# Altium footprint library ICs.PcbLib: 109 footprints (part 2 of 7)
Each footprint in its own frame and in the unit in brackets; x right, y up, seen from the top. Pads: shape width x height; smd on the part's side, far side on the other; paste and mask are expansions set on the pad; w line width, h text height; cw(c..) or ccw(c..) is an arc to the next point about the centre after c.
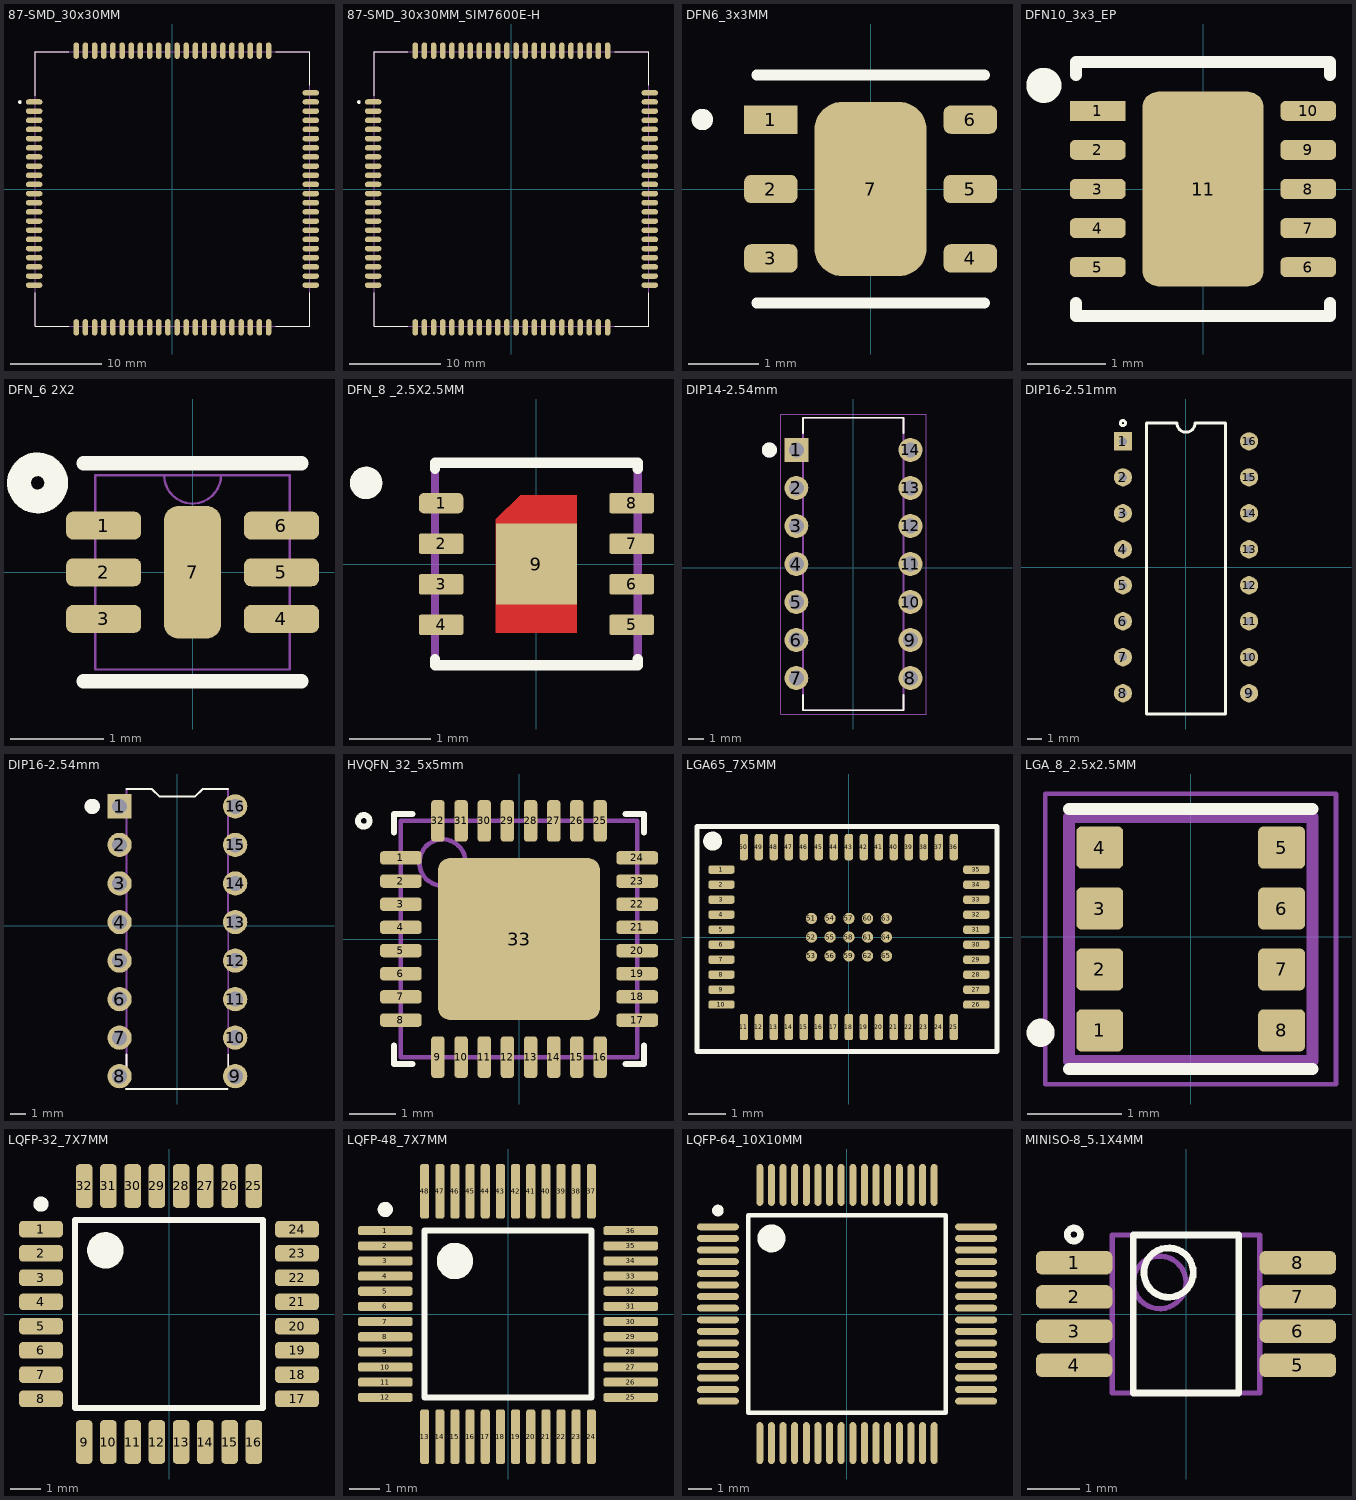
[diagram p1: the footprints below, top view; thin cyan lines are the x and y axes]

## 87-SMD_30x30MM [mm] "20220111 / E.Naranjo"
pads (87):
  oval 1.8x0.6 smd: 1(-15.1,9.5) 2(-15.1,8.5) 3(-15.1,7.5) 4(-15.1,6.5) 5(-15.1,5.5) 6(-15.1,4.5) 7(-15.1,3.5) 8(-15.1,2.5) 9(-15.1,1.5) 10(-15.1,0.5) 11(-15.1,-0.5) 12(-15.1,-1.5) 13(-15.1,-2.5) 14(-15.1,-3.5) 15(-15.1,-4.5) 16(-15.1,-5.5) 17(-15.1,-6.5) 18(-15.1,-7.5) 19(-15.1,-8.5) 20(-15.1,-9.5) 41(15.1,-9.5) 42(15.1,-8.5) 43(15.1,-7.5) 44(15.1,-6.5) 45(15.1,-5.5) 46(15.1,-4.5) 47(15.1,-3.5) 48(15.1,-2.5) 49(15.1,-1.5) 50(15.1,-0.5) 51(15.1,0.5) 52(15.1,1.5) 53(15.1,2.5) 54(15.1,3.5) 55(15.1,4.5) 56(15.1,5.5) 57(15.1,6.5) 58(15.1,7.5) 59(15.1,8.5) 60(15.1,9.5) 81(-15.1,-10.5) 82(15.1,-10.5) 85(15.1,10.5)
  oval 0.6x1.8 smd: 21(-9.5,-15.1) 22(-8.5,-15.1) 23(-7.5,-15.1) 24(-6.5,-15.1) 25(-5.5,-15.1) 26(-4.5,-15.1) 27(-3.5,-15.1) 28(-2.5,-15.1) 29(-1.5,-15.1) 30(-0.5,-15.1) 31(0.5,-15.1) 32(1.5,-15.1) 33(2.5,-15.1) 34(3.5,-15.1) 35(4.5,-15.1) 36(5.5,-15.1) 37(6.5,-15.1) 38(7.5,-15.1) 39(8.5,-15.1) 40(9.5,-15.1) 61(9.5,15.1) 62(8.5,15.1) 63(7.5,15.1) 64(6.5,15.1) 65(5.5,15.1) 66(4.5,15.1) 67(3.5,15.1) 68(2.5,15.1) 69(1.5,15.1) 70(0.5,15.1) 71(-0.5,15.1) 72(-1.5,15.1) 73(-2.5,15.1) 74(-3.5,15.1) 75(-4.5,15.1) 76(-5.5,15.1) 77(-6.5,15.1) 78(-7.5,15.1) 79(-8.5,15.1) 80(-9.5,15.1) 83(10.5,-15.1) 84(-10.5,-15.1) 86(-10.5,15.1) 87(10.5,15.1)
Top Overlay:
  circle w0.2: c-16.652,9.49 r0.1
  lines w0.127: -15,-11.3 -15,-15 -11.3,-15 ; -15,10.2 -15,15 -11.3,15 ; 11.3,-15 15,-15 15,-11.3 ; 11.3,15 15,15 15,11.3
Mechanical 1:
  lines w0.127: -15,-15 15,-15 15,15 -15,15 -15,-15
3D body "SIM7600ES2-107EP-Z1W4D_SMM.step": height 2.75, standoff 0, extent -15.075,-15.075 15.075,15.075

## 87-SMD_30x30MM_SIM7600E-H [mm] "20220318 / J-E.Pachon"
pads (87):
  oval 1.8x0.6 smd: 1(-15.1,9.5) 2(-15.1,8.5) 3(-15.1,7.5) 4(-15.1,6.5) 5(-15.1,5.5) 6(-15.1,4.5) 7(-15.1,3.5) 8(-15.1,2.5) 9(-15.1,1.5) 10(-15.1,0.5) 11(-15.1,-0.5) 12(-15.1,-1.5) 13(-15.1,-2.5) 14(-15.1,-3.5) 15(-15.1,-4.5) 16(-15.1,-5.5) 17(-15.1,-6.5) 18(-15.1,-7.5) 19(-15.1,-8.5) 20(-15.1,-9.5) 41(15.1,-9.5) 42(15.1,-8.5) 43(15.1,-7.5) 44(15.1,-6.5) 45(15.1,-5.5) 46(15.1,-4.5) 47(15.1,-3.5) 48(15.1,-2.5) 49(15.1,-1.5) 50(15.1,-0.5) 51(15.1,0.5) 52(15.1,1.5) 53(15.1,2.5) 54(15.1,3.5) 55(15.1,4.5) 56(15.1,5.5) 57(15.1,6.5) 58(15.1,7.5) 59(15.1,8.5) 60(15.1,9.5) 81(-15.1,-10.5) 82(15.1,-10.5) 85(15.1,10.5)
  oval 0.6x1.8 smd: 21(-9.5,-15.1) 22(-8.5,-15.1) 23(-7.5,-15.1) 24(-6.5,-15.1) 25(-5.5,-15.1) 26(-4.5,-15.1) 27(-3.5,-15.1) 28(-2.5,-15.1) 29(-1.5,-15.1) 30(-0.5,-15.1) 31(0.5,-15.1) 32(1.5,-15.1) 33(2.5,-15.1) 34(3.5,-15.1) 35(4.5,-15.1) 36(5.5,-15.1) 37(6.5,-15.1) 38(7.5,-15.1) 39(8.5,-15.1) 40(9.5,-15.1) 61(9.5,15.1) 62(8.5,15.1) 63(7.5,15.1) 64(6.5,15.1) 65(5.5,15.1) 66(4.5,15.1) 67(3.5,15.1) 68(2.5,15.1) 69(1.5,15.1) 70(0.5,15.1) 71(-0.5,15.1) 72(-1.5,15.1) 73(-2.5,15.1) 74(-3.5,15.1) 75(-4.5,15.1) 76(-5.5,15.1) 77(-6.5,15.1) 78(-7.5,15.1) 79(-8.5,15.1) 80(-9.5,15.1) 83(10.5,-15.1) 84(-10.5,-15.1) 86(-10.5,15.1) 87(10.5,15.1)
Top Overlay:
  circle w0.2: c-16.652,9.49 r0.1
  lines w0.127: -15,-11.3 -15,-15 -11.3,-15 ; -15,10.2 -15,15 -11.3,15 ; 11.3,-15 15,-15 15,-11.3 ; 11.3,15 15,15 15,11.3
Mechanical 1:
  lines w0.127: -15,-15 -15,15 15,15 15,-15 -15,-15
3D body "SIM7600E-H--3DModel-STEP-56544.STEP": height 3.11, standoff 0.01, extent -15,-15 15,15

## DFN6_3x3MM [mil] "/20221116/J-A.Sepulveda"
pads (7):
  rect 30x16 smd: 1(-56,39)
  rrect50% 30x16 smd: 2(-56,0) 3(-56,-39) 4(56,-39) 5(56,0) 6(56,39)
  rrect50% 63x98 smd: 7(0,0)
Top Overlay:
  circle w6: c-94.5,39 r3
  lines w6: -64,-64 64,-64 ; -64,64 64,64
3D body "DFN6_3X3_SIL.step": height 48.11, standoff 0, extent -59.02,-59.02 59.02,59.02

## DFN10_3x3_EP [mil] "10-VFDFN_EP/20220711/V-A.Patino"
pads (11):
  rect 28x10 smd: 1(-53,39.37)
  rrect50% 28x10 smd: 2(-53,19.69) 3(-53,0) 4(-53,-19.68) 5(-53,-39.37) 6(53,-39.37) 7(53,-19.68) 8(53,0) 9(53,19.69) 10(53,39.37)
  rrect25% 61.02x98 smd: 11(0,0)
Top Overlay:
  circle w9.84: c-80.22,52.23 r3.94
  lines w6: -64,-57.47 -64,-64 64,-64 64,-57.47 ; -64,57.47 -64,64 64,64 64,57.47
3D body "DFN10_3x3MC_MCH.step": height 37.09, standoff 0, extent -59.02,-59.02 59.02,59.02

## DFN_6 2X2 [mm] "6-WFDFN Exposed Pad/20210707/N-A.Potosi"
pads (7):
  rrect50% 0.805x0.3 smd: 1(-0.952,0.5) 2(-0.952,0) 3(-0.952,-0.5) 4(0.952,-0.5) 5(0.952,0) 6(0.952,0.5)
  rrect50% 0.61x1.42 smd: 7(0,0)
Top Overlay:
  circle w0.254: c-1.661,0.958 r0.199
  lines w0.152: -1.168,-1.168 1.168,-1.168 ; -1.168,1.168 1.168,1.168
Top Paste:
  region: 0.305,-0.71 -0.305,-0.71 -0.305,0.71 0.305,0.71
Mechanical 1:
  lines w0.025: -0.305,1.041 ccw(c0,1.041) 0.305,1.041 ; -0.305,1.041 -1.041,1.041 -1.041,-1.041 1.041,-1.041 1.041,1.041 0.305,1.041 ; -0.305,1.041 0.305,1.041
3D body "User Library-DFN-6-1.step": height 0.81, standoff 0.01, extent -1.054,-1.005 1.046,0.995

## DFN_8 _2.5X2.5MM [mm] "8VFDFN/20201009/N-A.Potosi"
pads (9):
  rrect50% 0.55x0.25 smd: 1(-1.175,0.75)
  rrect20% 0.55x0.25 smd: 2(-1.175,0.25) 3(-1.175,-0.25) 4(-1.175,-0.75) 5(1.175,-0.75) 6(1.175,-0.25) 7(1.175,0.25) 8(1.175,0.75)
  rect 1x1 smd: 9(0,0)
Top Layer:
  region: 0.5,-0.85 -0.5,-0.85 -0.5,0.55 -0.2,0.85 0.5,0.85
Top Overlay:
  circle w0.2: c-2.1,1 r0.1
  lines w0.127: -1.25,-1.175 -1.25,-1.25 1.25,-1.25 1.25,-1.175 ; -1.25,1.175 -1.25,1.25 1.25,1.25 1.25,1.175
Top Solder:
  drawing of 9 lines, arcs and shapes, not listed
Mechanical 1:
  lines w0.1: -1.25,-1.25 -1.25,1.25 1.25,1.25 1.25,-1.25 -1.25,-1.25
3D body "SHT31-DIS-F2.5KS.STEP": height 0.91, standoff 0.01, extent -1.251,-1.25 1.251,1.252

## DIP14-2.54mm [mm] "/20231007/ J.Jaramillo"
pads (14):
  rect 1.6x1.6 / inner round 1.6 / far side rect 1.6x1.6 hole 1: 1(-3.81,7.874)
  round 1.6 hole 1: 2(-3.81,5.334) 3(-3.81,2.794) 4(-3.81,0.254) 5(-3.81,-2.286) 6(-3.81,-4.826) 7(-3.81,-7.366) 8(3.81,-7.366) 9(3.81,-4.826) 10(3.81,-2.286) 11(3.81,0.254) 12(3.81,2.794) 13(3.81,5.334) 14(3.81,7.874)
Top Overlay:
  circle w0.8: c-5.61,7.874 r0.1
  lines w0.127: -3.353,-8.486 -3.353,-9.519 3.353,-9.519 3.353,-8.486 ; -3.353,8.994 -3.353,10.027 3.353,10.027 3.353,8.994
Mechanical 13:
  circle w0.8: c-5.61,7.874 r0.1
  lines w0.127: -3.353,-9.519 3.353,-9.519 3.353,10.027 -3.353,10.027 -3.353,-9.519
Mechanical 15:
  lines w0.05: -4.86,-9.768 -4.86,10.276 4.86,10.276 4.86,-9.768 -4.86,-9.768
3D body "step_temp.STEP": height 5.08, standoff -3.3, extent -4.097,-9.398 4.097,9.906

## DIP16-2.51mm [mil] "/20211126/ C-E. Rincon"
pads (16):
  rect 50x50 hole 22: 1(-173.5,346.46)
  round 50 hole 22.01: 2(-173.5,247.47)
  round 50 hole 22: 3(-173.5,148.48) 4(-173.5,49.49) 5(-173.5,-49.49) 6(-173.5,-148.48) 7(-173.5,-247.47) 8(-173.5,-346.46) 9(173.5,-346.46) 10(173.5,-247.47) 11(173.5,-148.48) 12(173.5,-49.49) 13(173.5,49.49) 14(173.5,148.48) 15(173.5,247.47) 16(173.5,346.46)
Top Overlay:
  circle w8: c-173.5,396.46 r7.09
  lines w7.87: -108.13,-403.54 -108.13,396.46 -25,396.46 ccw(c0,396.46) 25,396.46 108.13,396.46 108.13,-403.54 -108.13,-403.54
3D body "sn74hc595n.stp": height 197.85, standoff -132.65, extent -179.96,-380 177.46,380

## DIP16-2.54mm [mm] "/20240331/ J.Jaramillo"
pads (16):
  rect 1.6x1.6 / inner round 1.6 / far side rect 1.6x1.6 hole 1: 1(-3.81,7.874)
  round 1.6 hole 1: 2(-3.81,5.334) 3(-3.81,2.794) 4(-3.81,0.254) 5(-3.81,-2.286) 6(-3.81,-4.826) 7(-3.81,-7.366) 8(-3.81,-9.906) 9(3.81,-9.906) 10(3.81,-7.366) 11(3.81,-4.826) 12(3.81,-2.286) 13(3.81,0.254) 14(3.81,2.794) 15(3.81,5.334) 16(3.81,7.874)
Top Overlay:
  circle w0.8: c-5.61,7.874 r0.1
  lines w0.127: -3.39,-10.749 3.315,-10.749 ; -3.36,9.019 -1.683,9.019 -1.175,8.511 1.161,8.511 1.669,9.019 3.345,9.019 ; -3.353,-9.519 -3.353,-8.486 ; 3.353,-9.519 3.353,-8.486
Mechanical 13:
  circle w0.8: c-5.61,7.874 r0.1
  lines w0.127: -3.36,9.019 -3.353,-9.519 ; 3.345,9.019 3.353,-9.519
3D body "ULN2003ANE4.STEP": height 5.08, standoff -3.17, extent -4.1,-10.495 4.094,8.809

## HVQFN_32_5x5mm [mm] "SOT617/20190828/M-X.Arias"
pads (33):
  rrect50% 0.9x0.29 smd: 1(-2.55,1.75) 2(-2.55,1.25) 3(-2.55,0.75) 4(-2.55,0.25) 5(-2.55,-0.25) 6(-2.55,-0.75) 7(-2.55,-1.25) 8(-2.55,-1.75) 17(2.55,-1.75) 18(2.55,-1.25) 19(2.55,-0.75) 20(2.55,-0.25) 21(2.55,0.25) 22(2.55,0.75) 23(2.55,1.25) 24(2.55,1.75)
  rrect50% 0.29x0.9 smd: 9(-1.75,-2.55) 10(-1.25,-2.55) 11(-0.75,-2.55) 12(-0.25,-2.55) 13(0.25,-2.55) 14(0.75,-2.55) 15(1.25,-2.55) 16(1.75,-2.55) 25(1.75,2.55) 26(1.25,2.55) 27(0.75,2.55) 28(0.25,2.55) 29(-0.25,2.55) 30(-0.75,2.55) 31(-1.25,2.55) 32(-1.75,2.55)
  rrect15% 3.5x3.5 smd paste-1.75: 33(0,0)
Top Overlay:
  circle w0.127: c-3.35,2.55 r0.125
  lines w0.127: -2.7,-2.295 -2.7,-2.7 -2.295,-2.7 ; -2.7,2.295 -2.7,2.7 -2.295,2.7 ; 2.295,-2.7 2.7,-2.7 2.7,-2.295 ; 2.295,2.7 2.7,2.7 2.7,2.295
Top Paste:
  rectangle: 0.55,0.55 1.05,1.05
  rectangle: -0.25,0.55 0.25,1.05
  rectangle: -1.05,0.55 -0.55,1.05
  rectangle: -1.05,-0.25 -0.55,0.25
  rectangle: -1.05,-1.05 -0.55,-0.55
  rectangle: 0.55,-1.05 1.05,-0.55
  rectangle: -0.25,-1.05 0.25,-0.55
  rectangle: 0.55,-0.25 1.05,0.25
  rectangle: -0.25,-0.25 0.25,0.25
Mechanical 1:
  circle w0.1: c-1.65,1.65 r0.5
  lines w0.1: -2.55,-2.55 2.55,-2.55 2.55,2.55 -2.55,2.55 -2.55,-2.55
3D body: height 0.85, standoff 0, extent -2.55,-2.55 2.55,2.55

## LGA65_7X5MM [mm] "/20210809/N-A.Potosi"
pads (65):
  rrect50% 0.7x0.22 smd: 1(-3.4,1.8) 2(-3.4,1.4) 3(-3.4,1) 4(-3.4,0.6) 5(-3.4,0.2) 6(-3.4,-0.2) 7(-3.4,-0.6) 8(-3.4,-1) 9(-3.4,-1.4) 10(-3.4,-1.8) 26(3.4,-1.8) 27(3.4,-1.4) 28(3.4,-1) 29(3.4,-0.6) 30(3.4,-0.2) 31(3.4,0.2) 32(3.4,0.6) 33(3.4,1) 34(3.4,1.4) 35(3.4,1.8)
  rrect50% 0.22x0.7 smd: 11(-2.8,-2.4) 12(-2.4,-2.4) 13(-2,-2.4) 14(-1.6,-2.4) 15(-1.2,-2.4) 16(-0.8,-2.4) 17(-0.4,-2.4) 18(0,-2.4) 19(0.4,-2.4) 20(0.8,-2.4) 21(1.2,-2.4) 22(1.6,-2.4) 23(2,-2.4) 24(2.4,-2.4) 25(2.8,-2.4) 36(2.8,2.4) 37(2.4,2.4) 38(2,2.4) 39(1.6,2.4) 40(1.2,2.4) 41(0.8,2.4) 42(0.4,2.4) 43(0,2.4) 44(-0.4,2.4) 45(-0.8,2.4) 46(-1.2,2.4) 47(-1.6,2.4) 48(-2,2.4) 49(-2.4,2.4) 50(-2.8,2.4)
  round 0.3 smd: 51(-1,0.5) 52(-1,0) 53(-1,-0.5) 54(-0.5,0.5) 55(-0.5,0) 56(-0.5,-0.5) 57(0,0.5) 58(0,0) 59(0,-0.5) 60(0.5,0.5) 61(0.5,0) 62(0.5,-0.5) 63(1,0.5) 64(1,0) 65(1,-0.5)
Top Overlay:
  circle w0.254: c-3.633,2.559 r0.127
  lines w0.127: -4.05,-3.05 -4.05,2.95 3.95,2.95 3.95,-3.05 -4.05,-3.05
3D body: height 1, standoff 0, extent -3.5,-2.5 3.5,2.5

## LGA_8_2.5x2.5MM [mm] "VFLGA_8/20210809/N-A.Potosi"
pads (8):
  rrect25% 0.5x0.45 smd: 1(-0.97,-1) 2(-0.97,-0.35) 3(-0.97,0.3) 4(-0.97,0.95) 5(0.97,0.95) 6(0.97,0.3) 7(0.97,-0.35) 8(0.97,-1)
Top Overlay:
  circle w0.2: c-1.6,-1.025 r0.05
  lines w0.127: -1.3,-1.41 1.3,-1.41 ; -1.3,1.36 1.3,1.36
Mechanical 1:
  lines w0.127: -1.3,-1.325 -1.3,1.275 1.3,1.275 1.3,-1.325 -1.3,-1.325
Mechanical 15:
  lines w0.05: -1.55,-1.575 1.55,-1.575 1.55,1.525 -1.55,1.525 -1.55,-1.575
3D body "BME280--3DModel-STEP-56544.STEP": height 1.01, standoff 0.01, extent -1.25,-1.25 1.25,1.25

## LQFP-32_7X7MM [mm] "/20220810/A-F. Romo"
height 1.6
pads (32):
  rrect50% 1.45x0.55 smd: 1(-4.225,2.8) 2(-4.225,2) 3(-4.225,1.2) 4(-4.225,0.4) 5(-4.225,-0.4) 6(-4.225,-1.2) 7(-4.225,-2) 8(-4.225,-2.8) 17(4.225,-2.8) 18(4.225,-2) 19(4.225,-1.2) 20(4.225,-0.4) 21(4.225,0.4) 22(4.225,1.2) 23(4.225,2) 24(4.225,2.8)
  rrect50% 0.55x1.45 smd: 9(-2.8,-4.225) 10(-2,-4.225) 11(-1.2,-4.225) 12(-0.4,-4.225) 13(0.4,-4.225) 14(1.2,-4.225) 15(2,-4.225) 16(2.8,-4.225) 25(2.8,4.225) 26(2,4.225) 27(1.2,4.225) 28(0.4,4.225) 29(-0.4,4.225) 30(-1.2,4.225) 31(-2,4.225) 32(-2.8,4.225)
Top Overlay:
  circle w0.6: c-2.1,2.1 r0.3
  circle w0.25: c-4.225,3.625 r0.125
  lines w0.2: -3.1,-3.1 3.1,-3.1 3.1,3.1 -3.1,3.1 -3.1,-3.1
3D body "VF0032A.stp": height 1.6, standoff 0, extent -4.505,-4.505 4.506,4.506

## LQFP-48_7X7MM [mm] "/20210809/V-A.Patino"
height 1.6
pads (48):
  rrect50% 1.8x0.3 smd: 1(-4.05,2.75) 2(-4.05,2.25) 3(-4.05,1.75) 4(-4.05,1.25) 5(-4.05,0.75) 6(-4.05,0.25) 7(-4.05,-0.25) 8(-4.05,-0.75) 9(-4.05,-1.25) 10(-4.05,-1.75) 11(-4.05,-2.25) 12(-4.05,-2.75) 25(4.05,-2.75) 26(4.05,-2.25) 27(4.05,-1.75) 28(4.05,-1.25) 29(4.05,-0.75) 30(4.05,-0.25) 31(4.05,0.25) 32(4.05,0.75) 33(4.05,1.25) 34(4.05,1.75) 35(4.05,2.25) 36(4.05,2.75)
  rrect50% 0.3x1.8 smd: 13(-2.75,-4.05) 14(-2.25,-4.05) 15(-1.75,-4.05) 16(-1.25,-4.05) 17(-0.75,-4.05) 18(-0.25,-4.05) 19(0.25,-4.05) 20(0.75,-4.05) 21(1.25,-4.05) 22(1.75,-4.05) 23(2.25,-4.05) 24(2.75,-4.05) 37(2.75,4.05) 38(2.25,4.05) 39(1.75,4.05) 40(1.25,4.05) 41(0.75,4.05) 42(0.25,4.05) 43(-0.25,4.05) 44(-0.75,4.05) 45(-1.25,4.05) 46(-1.75,4.05) 47(-2.25,4.05) 48(-2.75,4.05)
Top Overlay:
  circle w0.6: c-1.75,1.75 r0.3
  circle w0.25: c-4.05,3.45 r0.125
  lines w0.2: -2.75,-2.75 2.75,-2.75 2.75,2.75 -2.75,2.75 -2.75,-2.75
3D body: height 1.6, standoff 0, extent -3.5,-3.5 3.5,3.5

## LQFP-64_10X10MM [mm] "64-LQFP/ 20210809/C-D Viveros"
pads (64):
  oval 1.8x0.3 smd: 1(-5.55,3.75) 2(-5.55,3.25) 3(-5.55,2.75) 4(-5.55,2.25) 5(-5.55,1.75) 6(-5.55,1.25) 7(-5.55,0.75) 8(-5.55,0.25) 9(-5.55,-0.25) 10(-5.55,-0.75) 11(-5.55,-1.25) 12(-5.55,-1.75) 13(-5.55,-2.25) 14(-5.55,-2.75) 15(-5.55,-3.25) 16(-5.55,-3.75) 33(5.55,-3.75) 34(5.55,-3.25) 35(5.55,-2.75) 36(5.55,-2.25) 37(5.55,-1.75) 38(5.55,-1.25) 39(5.55,-0.75) 40(5.55,-0.25) 41(5.55,0.25) 42(5.55,0.75) 43(5.55,1.25) 44(5.55,1.75) 45(5.55,2.25) 46(5.55,2.75) 47(5.55,3.25) 48(5.55,3.75)
  oval 0.3x1.8 smd: 17(-3.75,-5.55) 18(-3.25,-5.55) 19(-2.75,-5.55) 20(-2.25,-5.55) 21(-1.75,-5.55) 22(-1.25,-5.55) 23(-0.75,-5.55) 24(-0.25,-5.55) 25(0.25,-5.55) 26(0.75,-5.55) 27(1.25,-5.55) 28(1.75,-5.55) 29(2.25,-5.55) 30(2.75,-5.55) 31(3.25,-5.55) 32(3.75,-5.55) 49(3.75,5.55) 50(3.25,5.55) 51(2.75,5.55) 52(2.25,5.55) 53(1.75,5.55) 54(1.25,5.55) 55(0.75,5.55) 56(0.25,5.55) 57(-0.25,5.55) 58(-0.75,5.55) 59(-1.25,5.55) 60(-1.75,5.55) 61(-2.25,5.55) 62(-2.75,5.55) 63(-3.25,5.55) 64(-3.75,5.55)
Top Overlay:
  circle w0.25: c-5.55,4.45 r0.125
  circle w0.6: c-3.25,3.25 r0.3
  lines w0.2: -4.25,-4.25 -4.25,4.25 4.25,4.25 4.25,-4.25 -4.25,-4.25
3D body "User Library-64_LD_LQFP_10x10.step": height 1.66, standoff 0.04, extent -6.012,-6.024 6.023,6.011

## MINISO-8_5.1X4MM [mm] "MSOP8/20210809/N-A.Potosi"
pads (8):
  rrect50% 1.45x0.45 smd: 1(-2.125,0.975) 2(-2.125,0.325) 3(-2.125,-0.325) 4(-2.125,-0.975) 5(2.125,-0.975) 6(2.125,-0.325) 7(2.125,0.325) 8(2.125,0.975)
Top Overlay:
  circle w0.127: c-2.13,1.509 r0.125
  circle w0.127: c-0.33,0.787 r0.469
  lines w0.127: -1,-1.5 -1,1.5 1,1.5 1,-1.5 -1,-1.5
Mechanical 1:
  circle w0.1: c-0.5,0.6 r0.5
  lines w0.1: -1.4,-1.5 -1.4,1.5 1.4,1.5 1.4,-1.5 -1.4,-1.5
3D body "MINISO-8.step": height 0.95, standoff 0, extent -2.387,-1.5 2.388,1.5